# Altium schematic symbol library SLW-1276864-4A-D.SchLib: 1 symbol
Pins are listed as number, name and electrical type; pins without a type are passive.

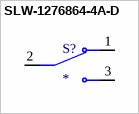
[diagram p0: symbol SLW-1276864-4A-D]

## SLW-1276864-4A-D
designator S?
MP: SLW-1276864-4A-D; Package: None; Price: None; Value: *; Availability: Unavailable
footprint SW_SLW-1276864-4A-D
pins: 1, 2, 3